# Altium footprint library PCB - SWITCH - C&K PTS841ESDGKPSMTRLFS.PcbLib: 1 footprints
Each footprint in its own frame and in the unit in brackets; x right, y up, seen from the top. Pads: shape width x height; smd on the part's side, far side on the other; paste and mask are expansions set on the pad; w line width, h text height; cw(c..) or ccw(c..) is an arc to the next point about the centre after c.
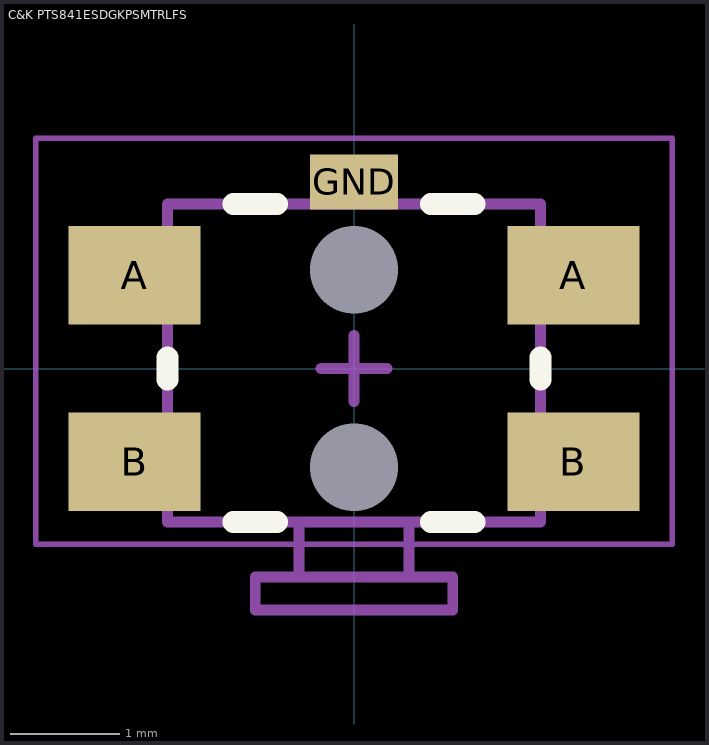
[diagram p0: the footprint, top view; thin cyan lines are the x and y axes]

## C&K PTS841ESDGKPSMTRLFS [mm] "Tactile Switch SPST-NO Side Actuated Surface Mount, Right Angle"
height 1.25
pads (7):
  rect 1.2x0.9 smd mask+0.1: A(-2,0.85) A(2,0.85) B(-2,-0.85) B(2,-0.85)
  rect 0.8x0.5 smd paste-2539.97 mask+0.102: GND(0,1.7)
  rect 0x0 hole 0.8 unplated: M(0,-0.9) M(0,0.9)
Top Overlay:
  lines w0.2: -1.7,-0.1 -1.7,0.1 ; -1.1,-1.4 -0.7,-1.4 ; -1.1,1.5 -0.7,1.5 ; 0.7,-1.4 1.1,-1.4 ; 0.7,1.5 1.1,1.5 ; 1.7,-0.1 1.7,0.1
Mechanical 13:
  lines w0.1: -0.5,-1.4 -0.5,-1.9 0.9,-1.9 0.9,-2.2 -0.9,-2.2 -0.9,-1.9 0.5,-1.9 0.5,-1.4 ; -1.7,-1.4 -1.7,1.5 1.7,1.5 1.7,-1.4 -1.7,-1.4
Mechanical 15 (Mech15):
  lines w0.05: -2.9,-1.6 -2.9,2.1 2.9,2.1 2.9,-1.6 -2.9,-1.6
  lines w0.1: -0.3,0 0.3,0 ; 0,-0.3 0,0.3
3D body "C&K PTS841ESDGKPSMTRLFS.step": height 1.4, standoff -0.5, extent -2.425,-2.2 2.425,1.69